# Altium footprint library Footprint.PcbLib: 122 footprints (part 1 of 8)
Each footprint in its own frame and in the unit in brackets; x right, y up, seen from the top. Pads: shape width x height; smd on the part's side, far side on the other; paste and mask are expansions set on the pad; w line width, h text height; cw(c..) or ccw(c..) is an arc to the next point about the centre after c.
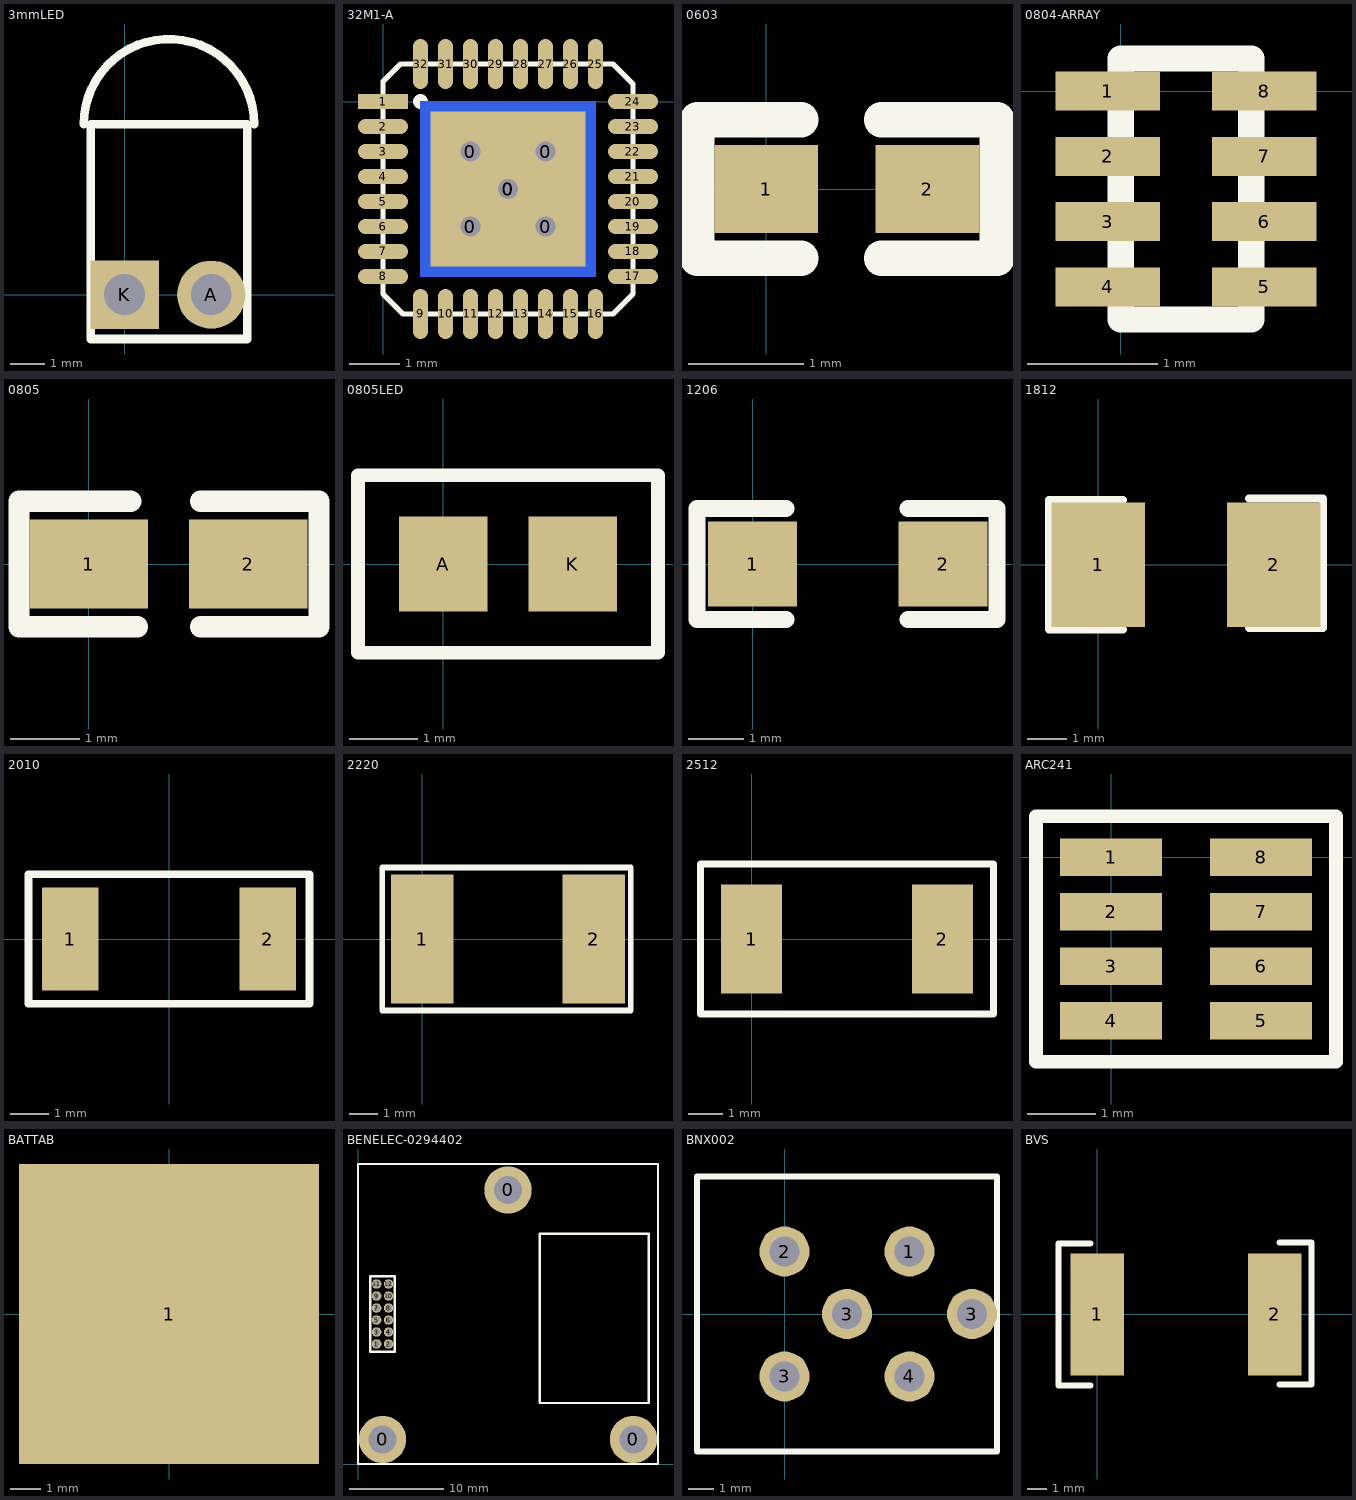
[diagram p0: the footprints below, top view; thin cyan lines are the x and y axes]

## 3mmLED [mm]
pads (2):
  round 2 hole 1.2: A(2.54,0)
  rect 2x2 hole 1.2: K(0,0)
TopOverlay:
  lines w0.254: -1.2,5 cw(c1.3,5) 3.8,5 ; -1,5 -1,-1.3 3.6,-1.3 3.6,5 -0.99,5

## 32M1-A [mm]
pads (40):
  round 1.2 hole 0.4: 0(1.75,-2.5) 0(1.75,-1) 0(2.5,-1.75) 0(3.25,-2.5) 0(3.25,-1)
  rect 3.1x3.1 smd: 0(2.5,-1.75)
  rect 3.5x3.5 smd far side: 0(2.5,-1.75)
  rect 1x0.3 smd: 1(0,0)
  oval 1x0.3 smd: 2(0,-0.5) 3(0,-1) 4(0,-1.5) 5(0,-2) 6(0,-2.5) 7(0,-3) 8(0,-3.5) 17(5,-3.5) 18(5,-3) 19(5,-2.5) 20(5,-2) 21(5,-1.5) 22(5,-1) 23(5,-0.5) 24(5,0)
  oval 0.3x1 smd: 9(0.75,-4.25) 10(1.25,-4.25) 11(1.75,-4.25) 12(2.25,-4.25) 13(2.75,-4.25) 14(3.25,-4.25) 15(3.75,-4.25) 16(4.25,-4.25) 25(4.25,0.75) 26(3.75,0.75) 27(3.25,0.75) 28(2.75,0.75) 29(2.25,0.75) 30(1.75,0.75) 31(1.25,0.75) 32(0.75,0.75)
  round 0.3 on Top Overlay: ""(0.75,0)
TopOverlay:
  lines w0.1: 0.35,0.75 0,0.4 0,0.35 0,-3.85 0.4,-4.25 4.6,-4.25 5,-3.85 5,0.35 4.6,0.75 0.4,0.75

## 0603 [mil]
pads (2):
  rect 35.43x30 smd: 1(0,0) 2(55,0)
TopOverlay:
  lines w12: 11.81,-23.62 -23.62,-23.62 -23.62,23.62 11.81,23.62 ; 39.37,-23.62 78.74,-23.62 78.74,23.62 39.37,23.62

## 0804-ARRAY [mm]
pads (8):
  rect 0.8x0.3 smd: 1(-0.1,0) 2(-0.1,-0.5) 3(-0.1,-1) 4(-0.1,-1.5) 5(1.1,-1.5) 6(1.1,-1) 7(1.1,-0.5) 8(1.1,0)
TopOverlay:
  lines w0.2: 0,-1.75 1,-1.75 1,0.25 0,0.25 0,-1.75

## 0805 [mm]
pads (2):
  rect 1.7x1.27 smd: 1(0,0) 2(2.286,0)
TopOverlay:
  lines w0.305: 0.6,0.9 -1,0.9 -1,-0.9 0.7,-0.9 ; 1.6,-0.9 3.3,-0.9 3.3,0.9 1.6,0.9

## 0805LED [mm]
pads (2):
  rect 1.3x1.4 smd: A(0,0) K(1.9,0)
TopOverlay:
  lines w0.2: -1.25,-1.3 -1.25,1.3 3.15,1.3 3.15,-1.3 -1.25,-1.3

## 1206 [mil]
pads (2):
  rect 62.99x60 smd: 1(0,0) 2(135,0)
TopOverlay:
  lines w12: 23.62,-39.37 -39.37,-39.37 -39.37,39.37 23.62,39.37 ; 110.24,-39.37 173.23,-39.37 173.23,39.37 110.24,39.37

## 1812 [mm]
pads (2):
  rect 2.4x3.2 smd: 1(0,0) 2(4.5,0)
TopOverlay:
  lines w0.203: 0.635,-1.659 -1.27,-1.659 -1.27,1.659 0.635,1.659 ; 3.864,-1.618 5.769,-1.618 5.769,1.7 3.864,1.7

## 2010 [mm]
pads (2):
  rect 1.5x2.7 smd: 1(-2.6,0) 2(2.6,0)
TopOverlay:
  lines w0.2: -3.7,-0.8 -3.7,1.7 3.7,1.7 3.7,-1.7 -3.7,-1.7 -3.7,0.8

## 2220 [mm]
pads (2):
  rect 2.2x4.5 smd: 1(0,0) 2(6,0)
TopOverlay:
  lines w0.2: -1.4,-2.5 7.3,-2.5 7.3,2.5 -1.4,2.5 -1.4,-2.5

## 2512 [mm]
pads (2):
  rect 1.8x3.2 smd: 1(0,0) 2(5.6,0)
TopOverlay:
  lines w0.2: -1.5,-2.2 7.1,-2.2 7.1,2.2 -1.5,2.2 -1.5,-2.2

## ARC241 [mm] "4 resistor pack"
pads (8):
  rect 1.5x0.55 smd: 1(0,0) 2(0,-0.8) 3(0,-1.6) 4(0,-2.4) 5(2.2,-2.4) 6(2.2,-1.6) 7(2.2,-0.8) 8(2.2,0)
TopOverlay:
  lines w0.2: -1.1,-3 -1.1,0.6 3.3,0.6 3.3,-3 -1.1,-3

## BATTAB [mm]
pads (1):
  rect 10x10 smd: 1(0,0)

## BENELEC-0294402 [mm] "GPS Module"
height 9
pads (15):
  round 5 hole 3: 0(2.6,2.6) 0(15.875,29) 0(29.15,2.6)
  round 1 hole 0.7: 1(1.965,12.7) 2(3.235,12.7) 3(1.965,13.97) 4(3.235,13.97) 5(1.965,15.24) 6(3.235,15.24) 7(1.965,16.51) 8(3.235,16.51) 9(1.965,17.78) 10(3.235,17.78) 11(1.965,19.05) 12(3.235,19.05)
TopOverlay:
  lines w0.254: 1.3,11.875 1.3,19.875 ; 1.325,11.875 3.87,11.875 3.87,19.75 ; 1.325,19.875 3.87,19.875 ; 0,0 31.75,0 31.75,31.75 0,31.75 0,0 ; 19.25,6.46 30.75,6.46 30.75,24.36 19.25,24.36 19.25,6.46

## BNX002 [mm]
pads (6):
  round 2 hole 1.2: 1(5,2.5) 2(0,2.5) 3(0,-2.5) 3(2.5,0) 3(7.5,0) 4(5,-2.5)
TopOverlay:
  lines w0.254: -3.5,-5.5 -3.5,5.5 8.5,5.5 8.5,-5.5 -3.5,-5.5

## BVS [mm]
pads (2):
  rect 2.7x6.2 smd: 1(0,0) 2(9,0)
TopOverlay:
  lines w0.305: -0.35,-3.6 -1.95,-3.6 -1.95,3.6 -0.35,3.6 ; 9.25,-3.55 10.85,-3.55 10.85,3.65 9.25,3.65